# EAGLE library part JTAG-NEEDLE (library kotuku)
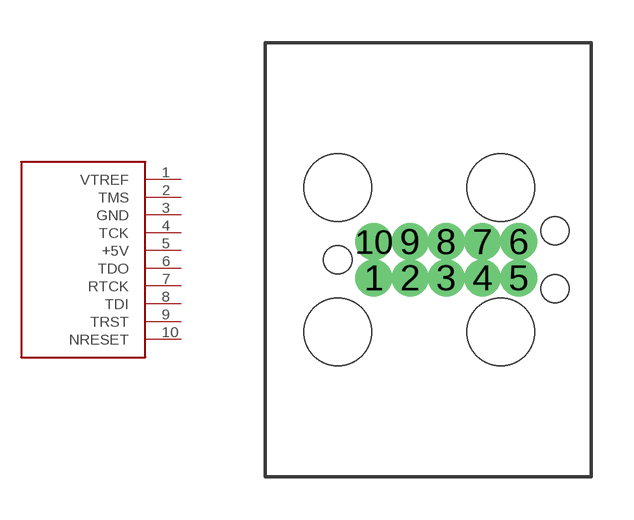
[diagram p13: symbol with the pads of JLINK-NEEDLE; footprint JLINK-NEEDLE]

Designator prefix -

## JTAG-NEEDLE  [JLINK-NEEDLE]
1  VTREF
2  TMS
3  GND
4  TCK
5  +5V
6  TDO
7  RTCK
8  TDI
9  TRST
10  NRESET

## Footprint JLINK-NEEDLE (pad centres in mm)
drill 0.787 pad 0.813: 1 1.27,-0.635; 2 2.54,-0.635; 3 3.81,-0.635; 4 5.08,-0.635; 5 6.35,-0.635; 6 6.35,0.635; 7 5.08,0.635; 8 3.81,0.635; 9 2.54,0.635; 10 1.27,0.635
hole 2.375 at 0,2.54
hole 2.375 at 5.715,2.54
hole 2.375 at 0,-2.54
hole 2.375 at 5.715,-2.54
hole 0.991 at 7.62,1.016
hole 0.991 at 7.62,-1.016
hole 0.991 at 0,0